# Altium schematic symbol library SCH - ARM CORTEX - NXP MKL27Z64Vxx4 LQFP64.SchLib: 1 symbol
Pins are listed as number, name and electrical type; pins without a type are passive.

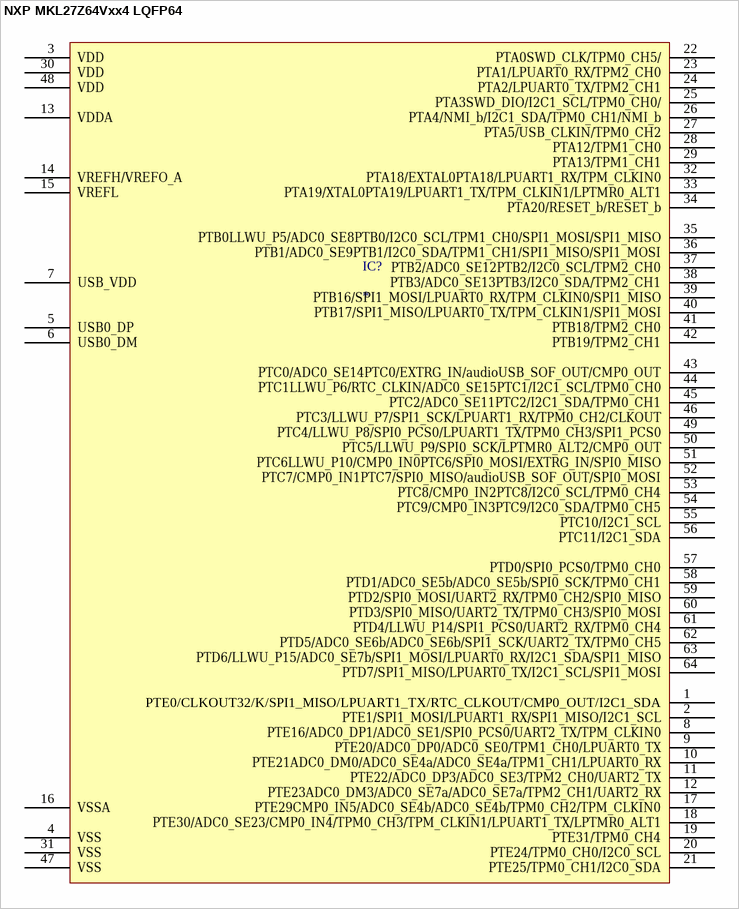
[diagram p0: symbol NXP MKL27Z64Vxx4 LQFP64]

## NXP MKL27Z64Vxx4 LQFP64
designator IC?
pins: 1 PTE0/CLKOUT32/K/SPI1_MISO/LPUART1_TX/RTC_CLKOUT/CMP0_OUT/I2C1_SDA, 2 ​​​PTE1/SPI1_MOSI/LPUART1_RX/SPI1_MISO/I2C1_SCL, 3 ​​​VDD, 4 ​​​VSS, 5 ​​​USB0_DP, 6 ​​​USB0_DM, 7 ​​​USB_VDD, 8 ​​​PTE16/ADC0_DP1/ADC0_SE1/SPI0_PCS0/UART2_TX/TPM_CLKIN0, 9 ​​​PTE20/ADC0_DP0/ADC0_SE0/TPM1_CH0/LPUART0_TX, 10 ​​​PTE21ADC0_DM0/ADC0_SE4a/ADC0_SE4a/TPM1_CH1/LPUART0_RX, 11 ​​​PTE22/ADC0_DP3/ADC0_SE3/TPM2_CH0/UART2_TX, 12 ​​​PTE23ADC0_DM3/ADC0_SE7a/ADC0_SE7a/TPM2_CH1/UART2_RX, 13 ​​​VDDA, 14 ​​​VREFH/VREFO_A, 15 ​​​VREFL, 16 ​​​VSSA, 17 ​​​PTE29CMP0_IN5/ADC0_SE4b/ADC0_SE4b/TPM0_CH2/TPM_CLKIN0, 18 ​​​PTE30/ADC0_SE23/CMP0_IN4/TPM0_CH3/TPM_CLKIN1/LPUART1_TX/LPTMR0_ALT1, 19 ​​​PTE31/TPM0_CH4, 20 ​​​PTE24/TPM0_CH0/I2C0_SCL, 21 ​​​PTE25/TPM0_CH1/I2C0_SDA, 22 ​​​PTA0SWD_CLK/TPM0_CH5/, 23 ​​​PTA1/LPUART0_RX/TPM2_CH0, 24 ​​​PTA2/LPUART0_TX/TPM2_CH1, 25 ​​​PTA3SWD_DIO/I2C1_SCL/TPM0_CH0/, 26 ​​​PTA4/NMI_b/I2C1_SDA/TPM0_CH1/NMI_b, 27 ​​​PTA5/USB_CLKIN/TPM0_CH2, 28 ​​​PTA12/TPM1_CH0, 29 ​​​PTA13/TPM1_CH1, 30 ​​​VDD, 31 ​​​VSS, 32 ​​​PTA18/EXTAL0PTA18/LPUART1_RX/TPM_CLKIN0, 33 ​​​PTA19/XTAL0PTA19/LPUART1_TX/TPM_CLKIN1/LPTMR0_ALT1, 34 ​​​PTA20/RESET_b/RESET_b, 35 ​​​PTB0LLWU_P5/ADC0_SE8PTB0/I2C0_SCL/TPM1_CH0/SPI1_MOSI/SPI1_MISO, 36 ​​​PTB1/ADC0_SE9PTB1/I2C0_SDA/TPM1_CH1/SPI1_MISO/SPI1_MOSI, 37 ​​​PTB2/ADC0_SE12PTB2/I2C0_SCL/TPM2_CH0, 38 ​​​PTB3/ADC0_SE13PTB3/I2C0_SDA/TPM2_CH1, 39 ​​​PTB16/SPI1_MOSI/LPUART0_RX/TPM_CLKIN0/SPI1_MISO, 40 ​​​PTB17/SPI1_MISO/LPUART0_TX/TPM_CLKIN1/SPI1_MOSI, 41 ​​​PTB18/TPM2_CH0, 42 ​​​PTB19/TPM2_CH1, 43 ​​​PTC0/ADC0_SE14PTC0/EXTRG_IN/audioUSB_SOF_OUT/CMP0_OUT, 44 ​​​PTC1LLWU_P6/RTC_CLKIN/ADC0_SE15PTC1/I2C1_SCL/TPM0_CH0, 45 ​​​PTC2/ADC0_SE11PTC2/I2C1_SDA/TPM0_CH1, 46 ​​​PTC3/LLWU_P7/SPI1_SCK/LPUART1_RX/TPM0_CH2/CLKOUT, 47 ​​​VSS, 48 ​​​VDD, 49 ​​​PTC4/LLWU_P8/SPI0_PCS0/LPUART1_TX/TPM0_CH3/SPI1_PCS0, 50 ​​​PTC5/LLWU_P9/SPI0_SCK/LPTMR0_ALT2/CMP0_OUT, 51 ​​​PTC6LLWU_P10/CMP0_IN0PTC6/SPI0_MOSI/EXTRG_IN/SPI0_MISO, 52 ​​​PTC7/CMP0_IN1PTC7/SPI0_MISO/audioUSB_SOF_OUT/SPI0_MOSI, 53 ​​​PTC8/CMP0_IN2PTC8/I2C0_SCL/TPM0_CH4, 54 ​​​PTC9/CMP0_IN3PTC9/I2C0_SDA/TPM0_CH5, 55 ​​​PTC10/I2C1_SCL, 56 ​​​PTC11/I2C1_SDA, 57 ​​​PTD0/SPI0_PCS0/TPM0_CH0, 58 ​​​PTD1/ADC0_SE5b/ADC0_SE5b/SPI0_SCK/TPM0_CH1, 59 ​​​PTD2/SPI0_MOSI/UART2_RX/TPM0_CH2/SPI0_MISO, 60 ​​​PTD3/SPI0_MISO/UART2_TX/TPM0_CH3/SPI0_MOSI, 61 ​​​PTD4/LLWU_P14/SPI1_PCS0/UART2_RX/TPM0_CH4, 62 ​​​PTD5/ADC0_SE6b/ADC0_SE6b/SPI1_SCK/UART2_TX/TPM0_CH5, 63 ​​​PTD6/LLWU_P15/ADC0_SE7b/SPI1_MOSI/LPUART0_RX/I2C1_SDA/SPI1_MISO, 64 ​​​PTD7/SPI1_MISO/LPUART0_TX/I2C1_SCL/SPI1_MOSI